# Altium footprint library kwPower.pcblib: 50 footprints (part 1 of 4)
Each footprint in its own frame and in the unit in brackets; x right, y up, seen from the top. Pads: shape width x height; smd on the part's side, far side on the other; paste and mask are expansions set on the pad; w line width, h text height; cw(c..) or ccw(c..) is an arc to the next point about the centre after c.
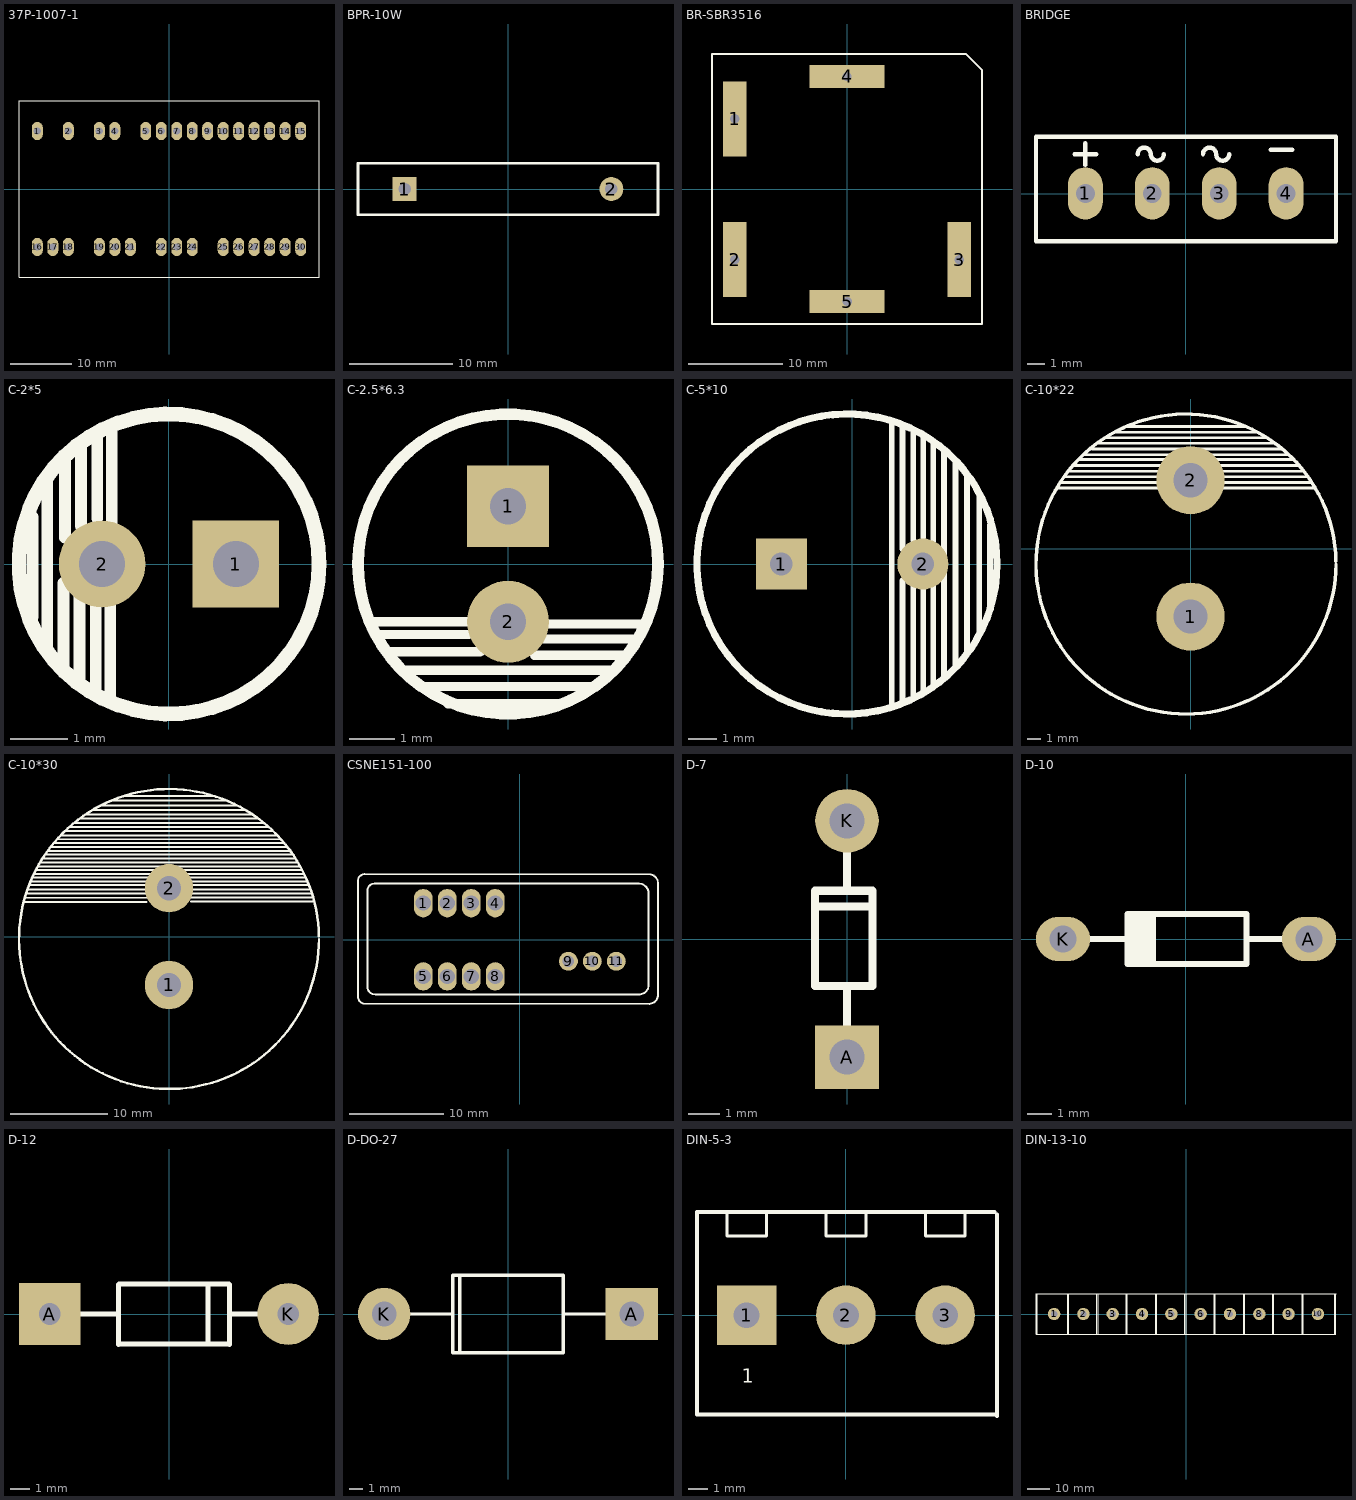
[diagram p0: the footprints below, top view; thin cyan lines are the x and y axes]

## 37P-1007-1 [mm]
pads (30):
  oval 1.8x3 hole 1.2: 1(-21.59,9.508) 2(-16.51,9.508) 3(-11.43,9.508) 4(-8.89,9.508) 5(-3.81,9.508) 6(-1.27,9.508) 7(1.27,9.508) 8(3.81,9.508) 9(6.35,9.508) 10(8.89,9.508) 11(11.43,9.508) 12(13.97,9.508) 13(16.51,9.508) 14(19.05,9.508) 15(21.59,9.508) 16(-21.59,-9.492) 17(-19.05,-9.492) 18(-16.51,-9.492) 19(-11.43,-9.492) 20(-8.89,-9.492) 21(-6.35,-9.492) 22(-1.27,-9.492) 23(1.27,-9.492) 24(3.81,-9.492) 25(8.89,-9.492) 26(11.43,-9.492) 27(13.97,-9.492) 28(16.51,-9.492) 29(19.05,-9.492) 30(21.59,-9.492)
TopOverlay:
  lines w0.203: -24.59,-14.492 24.59,-14.492 24.59,14.508 -24.59,14.508 -24.59,-14.492

## BPR-10W [mm]
pads (2):
  rect 2.3x2.3 / inner round 2.1 / far side rect 2.3x2.3 hole 1.2: 1(-10,0.008)
  round 2.3 / inner round 2.1 / far side round 2.3 hole 1.2: 2(10,0.008)
TopOverlay:
  lines w0.254: -14.5,-2.492 14.5,-2.492 14.5,2.508 -14.5,2.508 -14.5,-2.492

## BR-SBR3516 [mm]
pads (5):
  rect 2.5x8 hole 1: 1(-11.989,7.489) 2(-11.989,-7.523) 3(11.989,-7.523)
  rect 8x2.5 hole 1: 4(0,12.01) 5(0.025,-11.993)
TopOverlay:
  lines w0.203: 11.684,14.396 12.713,14.396 14.4,12.708 14.4,-14.404 -14.4,-14.404 -14.4,14.396 9.652,14.396 11.697,14.396

## BRIDGE [mm]
pads (4):
  oval 2.032x3.048 hole 1.1: 1(-5.85,0.008) 2(-1.95,0.008) 3(1.95,0.008) 4(5.85,0.008)
TopOverlay:
  lines w0.254: -8.725,3.31 -8.725,-2.786 8.756,-2.786 8.756,3.31 -8.725,3.314 ; -6.484,2.294 -5.214,2.294 ; -5.849,1.659 -5.849,2.929 ; -2.801,2.294 cw(c-2.42,2.294) -2.039,2.294 ccw(c-1.658,2.294) -1.277,2.294 ; 1.009,2.294 cw(c1.39,2.294) 1.771,2.294 ccw(c2.152,2.294) 2.533,2.294 ; 4.946,2.548 6.216,2.548

## C-2*5 [mm]
pads (2):
  rect 1.5x1.5 / inner round 1.3 / far side rect 1.5x1.5 hole 0.8: 1(1.167,0.008)
  round 1.5 / inner round 1.3 / far side round 1.5 hole 0.8: 2(-1.153,0.008)
TopOverlay:
  circle w0.254: c0.007,0.008 r2.6
  lines w0.203: -2.355,-0.906 -2.355,0.821 ; -2.101,-1.465 -2.101,1.456 ; -1.822,-1.77 -1.822,-0.322 ; -1.796,0.466 -1.796,1.786 ; -1.542,-2.024 -1.542,-0.576 ; -1.517,0.669 -1.517,2.091 ; -1.263,-2.176 -1.263,-0.677 ; -1.238,0.796 -1.238,2.218 ; -1.009,-2.354 -1.009,-0.703 ; -0.984,0.72 -0.984,2.345

## C-2.5*6.3 [mm]
pads (2):
  rect 1.8x1.8 / inner rect 1.6x1.6 / far side round 1.8 hole 0.8: 1(0,1.278)
  round 1.8 / inner round 1.6 / far side round 1.8 hole 0.8: 2(0,-1.262)
TopOverlay:
  circle w0.254: c0,0.008 r3.3
  lines w0.203: -2.997,-1.262 -0.914,-1.262 ; -2.896,-1.541 -0.864,-1.541 ; -2.642,-1.922 -0.61,-1.922 ; -2.286,-2.328 2.311,-2.328 ; -1.854,-2.684 1.88,-2.684 ; -1.321,-3.065 1.219,-3.065 ; 0.584,-1.998 2.54,-1.998 ; 0.787,-1.643 2.769,-1.643 ; 0.889,-1.312 2.946,-1.312

## C-5*10 [mm]
pads (2):
  rect 1.8x1.8 / inner round 1.6 / far side rect 1.8x1.8 hole 0.8: 1(-2.5,0.008)
  round 1.8 / inner round 1.6 / far side round 1.8 hole 0.8: 2(2.5,0.008)
TopOverlay:
  circle w0.254: c-0.18,0.008 r5.3
  lines w0.203: 1.397,-4.945 1.397,4.936 ; 1.778,-4.894 1.778,-0.576 ; 1.778,0.542 1.778,4.86 ; 2.159,-4.767 2.159,-0.779 ; 2.159,0.847 2.159,4.707 ; 2.515,-4.564 2.515,-0.83 ; 2.515,0.948 2.515,4.58 ; 2.87,-4.36 2.87,-0.754 ; 2.87,0.821 2.87,4.301 ; 3.251,-4.03 3.251,3.996 ; 3.658,-3.624 3.658,3.615 ; 4.064,-3.167 4.064,3.183 ; 4.496,-2.481 4.496,2.421 ; 4.877,-1.617 4.877,1.38

## C-10*22 [mm]
pads (2):
  round 5 hole 2.5: 1(0,-4.992) 2(0,5.008)
TopOverlay:
  lines w0.203: -9.8,4.443 -1.397,4.443 ; -9.5,4.849 -1.321,4.849 ; -9.3,5.255 -1.194,5.255 ; -9,5.662 -0.965,5.662 ; -8.5,6.094 8,6.094 ; -8.1,6.525 7.6,6.525 ; -7.7,6.881 7.2,6.881 ; -7.2,7.287 6.7,7.287 ; -6.902,7.719 6.2,7.719 ; -6.102,8.126 5.498,8.126 ; -5.5,8.532 4.898,8.532 ; -4.6,8.938 3.898,8.938 ; 0.762,5.662 8.3,5.662 ; 1.067,4.443 9.1,4.443 ; 1.092,5.255 8.6,5.255 ; 1.118,4.849 8.9,4.849
  lines w0.254: 10.665,-0.947 ccw(c-0.333,-1.136) 10.667,-1.136

## C-10*30 [mm]
pads (2):
  round 5 hole 2.5: 1(0,-4.992) 2(0,5.009)
TopOverlay:
  lines w0.203: -14.986,3.564 -14.6,3.564 -2.311,3.564 ; -14.834,4.022 -14.4,4.022 -1.956,4.022 ; -14.757,4.453 -14.2,4.453 -1.499,4.453 ; -14.58,4.86 -14.1,4.86 14.1,4.86 14.63,4.86 ; -14.427,5.317 -13.8,5.317 13.9,5.317 14.478,5.317 ; -14.3,5.723 -13.8,5.723 13.7,5.723 14.275,5.723 ; -14.097,6.104 -13.5,6.104 13.5,6.104 14.122,6.104 ; -13.945,6.485 -13.3,6.485 13.3,6.485 13.919,6.485 ; -13.691,6.892 -13.2,6.892 13.2,6.892 13.741,6.892 ; -13.513,7.273 -13,7.273 13,7.273 13.538,7.273 ; -13.259,7.679 -12.7,7.679 12.7,7.679 13.284,7.679 ; -13.005,8.086 -12.5,8.086 12.5,8.086 13.056,8.086 ; -12.751,8.467 -12.2,8.467 12.2,8.467 12.776,8.467 ; -12.471,8.848 -11.9,8.848 11.9,8.848 12.548,8.848 ; -12.192,9.254 -11.6,9.254 11.6,9.254 12.243,9.254 ; -11.862,9.66 -11.3,9.66 11.3,9.66 11.913,9.66 ; -11.481,10.067 -10.8,10.067 -7.671,10.067 -1.092,10.067 1.194,10.067 7.696,10.067 10.897,10.067 11.582,10.067 ; -11.151,10.473 -10.5,10.473 -7.468,10.473 -0.864,10.473 0.864,10.473 7.442,10.473 10.465,10.473 11.201,10.473 ; -10.719,10.905 -10,10.905 -7.137,10.905 7.112,10.905 10.008,10.905 ; -10.287,11.337 -9.5,11.337 -6.833,11.337 6.731,11.337 9.55,11.337 10.287,11.337 ; -9.804,11.743 -9,11.743 -6.35,11.743 6.401,11.743 9.017,11.743 9.83,11.743 ; -9.195,12.2 -8.509,12.2 -6.054,12.2 ; -8.56,12.632 -7.9,12.632 -5.512,12.632 5.512,12.632 7.95,12.632 8.611,12.632 ; -7.849,13.089 -7.075,13.089 -4.928,13.089 ; -6.985,13.572 -6.401,13.572 -4.293,13.572 ; -6.045,12.2 6.045,12.2 8.534,12.2 9.246,12.2 ; -5.944,14.055 -5.385,14.055 -3.353,14.055 3.556,14.055 5.385,14.055 6.02,14.055 ; -4.953,13.089 5.029,13.089 ; -4.75,14.512 -3.81,14.512 ; -4.293,13.572 4.318,13.572 6.401,13.572 6.985,13.572 ; -4.013,14.512 -2.159,14.512 2.286,14.512 ; 1.575,4.453 14.2,4.453 14.757,4.453 ; 1.93,4.047 14.3,4.047 14.859,4.047 ; 2.261,3.615 14.5,3.615 14.986,3.615 ; 2.311,14.512 4.064,14.512 4.75,14.512 ; 5.055,13.089 7.137,13.089 7.899,13.089 ; 9.779,10.905 10.744,10.905
  lines w0.254: 15.498,0.026 ccw(c0,-0.242) 15.5,-0.242

## CSNE151-100 [mm]
pads (11):
  oval 2x3 hole 1.6: 1(-10.225,3.883) 2(-7.685,3.883) 3(-5.145,3.883) 4(-2.605,3.883) 5(-10.225,-3.867) 6(-7.685,-3.867) 7(-5.145,-3.867) 8(-2.605,-3.867)
  round 2 hole 1.2: 9(5.145,-2.267) 10(7.685,-2.267) 11(10.225,-2.267)
TopOverlay:
  lines w0.203: -17.125,-5.967 -17.125,5.345 -17.125,6.361 ; -17.125,-5.933 ccw(c-16.382,-6.024) -16.473,-6.767 13.748,-6.767 ; -17.125,6.361 cw(c-16.441,6.266) -16.346,6.949 13.6,6.949 cw(c13.666,5.99) 14.625,6.056 ; -16.125,-5.138 -16.125,4.253 -16.125,5.269 ; -16.125,-5.018 ccw(c-15.341,-4.982) -15.305,-5.767 12.584,-5.767 ccw(c12.667,-4.809) 13.625,-4.891 ; -16.125,5.269 cw(c-15.425,5.25) -15.407,5.949 12.61,5.949 cw(c12.625,4.949) 13.625,4.964 ; 13.575,-6.767 ccw(c13.696,-5.837) 14.625,-5.958 14.625,5.04 14.625,6.056 ; 13.625,-4.891 13.625,3.948 13.625,4.964

## D-7 [mm]
pads (2):
  rect 2x2 hole 1.1: A(0,-3.71)
  round 2 hole 1.1: K(0,3.727)
TopOverlay:
  lines w0.254: -1,1.027 0.8,1.027 ; 0,-2.727 0,-1.973 0,-1.473 ; 0,1.527 0,2.027 0,2.823 ; -1,-1.473 -1,1.527 0.8,1.527 0.8,-1.473 -1,-1.473

## D-10 [mm]
pads (2):
  oval 2.2x1.8 hole 1.1: A(5,0.008) K(-5,0.008)
TopOverlay:
  lines w0.254: -4.017,0.008 -2.366,0.008 ; -2.112,-1.008 -2.112,1.024 ; -1.858,-1.008 -1.858,1.024 ; -1.604,-1.008 -1.604,1.024 ; -1.35,-1.008 -1.35,1.024 ; 2.46,0.008 4.238,0.008 ; -2.366,-1.008 -2.366,1.024 2.46,1.024 2.46,-1.008 -2.366,-1.008

## D-12 [mm]
pads (2):
  rect 3.1x3.1 / inner round 2.9 / far side rect 3.1x3.1 hole 1.1: A(-6,0.008)
  round 3.1 / inner round 2.9 / far side round 3.1 hole 1.1: K(6,0.008)
TopOverlay:
  lines w0.25: -4.572,0.008 -3.556,0.008 ; 4.064,0.008 4.76,0.008
  lines w0.254: -3.556,0.008 -2.556,0.008 ; -2.54,-1.516 -2.54,1.484 ; -2.516,-1.492 -1.936,-1.492 2.464,-1.492 3.024,-1.492 ; -2.516,1.508 -1.936,1.508 2.464,1.508 3.024,1.508 ; 1.964,-1.492 1.964,1.508 ; 3.048,-1.516 3.048,1.484 ; 3.064,0.008 4.064,0.008

## D-DO-27 [mm]
pads (2):
  rect 3.8x3.8 / inner round 3.6 / far side rect 3.8x3.8 hole 1.8: A(9,0.008)
  round 3.8 / inner round 3.6 / far side round 3.8 hole 1.8: K(-9,0.008)
TopOverlay:
  lines w0.254: -7.112,0.008 -5.5,0.008 -4,0.008 ; -3.5,-2.792 -3.5,2.808 ; 4,0.008 5.5,0.008 7.112,0.008 ; -4,-2.792 -4,2.808 4,2.808 4,-2.792 -4,-2.792

## DIN-5-3 [mm]
pads (3):
  rect 3x3 / inner rect 2.6x2.6 / far side rect 3x3 hole 1.3: 1(-5,0.008)
  round 3 / inner round 2.6 / far side round 3 hole 1.3: 2(0,0.008) 3(5,0.008)
TopOverlay:
  lines w0.15: -6,5.208 -6,4.008 -4,4.008 -4,5.208 ; -1,5.208 -1,4.008 1,4.008 1,5.208 ; 4,5.208 4,4.008 6,4.008 6,5.208
  lines w0.203: 7.477,5.208 -7.5,5.208 -7.5,-4.992 7.528,-4.992 ; 7.608,-5.072 7.608,5.078
  text "1" at -5.244,-3.395 h0.7

## DIN-13-10 [mm]
pads (10):
  round 5.5 hole 2.8: 1(-58.5,0.008) 2(-45.5,0.008) 3(-32.5,0.008) 4(-19.5,0.008) 5(-6.5,0.008) 6(6.5,0.008) 7(19.5,0.008) 8(32.5,0.008) 9(45.5,0.008) 10(58.5,0.008)
TopOverlay:
  lines w0.2: -66,-8.992 -66,9.008 ; -52.5,-8.992 -52.5,9.008 ; -39.5,-8.992 -39.5,8.653 -39.5,9.008 ; -0.5,-8.89 -0.5,9.008 ; 25.5,-8.865 25.5,9.008
  lines w0.203: -26.5,-8.782 -26.5,8.964 ; -13.5,-8.992 -13.5,8.78 ; 12.5,-8.992 12.5,9.008 ; 38.5,-8.763 38.5,9.008 ; 51.5,-8.763 51.5,9.008 ; 66,-8.865 66,9.008
  lines w0.3: -66.532,-8.992 -61,-8.992 -20.2,-8.992 31.068,-8.992 66.5,-8.992 66.5,9.008 ; -66.5,-8.959 -66.5,-3.492 -66.5,9.008 -61,9.008 -20.2,9.008 ; -52,-8.992 -52,9.008 ; -39,-8.992 -39,9.008 ; -26,-8.992 -26,9.008 ; -20.654,9.008 66.525,9.008 ; -13,-8.992 -13,9.008 ; 0,-8.992 0,9.008 ; 13,-8.992 13,9.008 ; 26,-8.992 26,9.008 ; 39,-8.992 39,9.008 ; 52,-8.992 52,9.008